# Altium footprint library PCB1.PcbLib: 10 footprints
Each footprint in its own frame and in the unit in brackets; x right, y up, seen from the top. Pads: shape width x height; smd on the part's side, far side on the other; paste and mask are expansions set on the pad; w line width, h text height; cw(c..) or ccw(c..) is an arc to the next point about the centre after c.
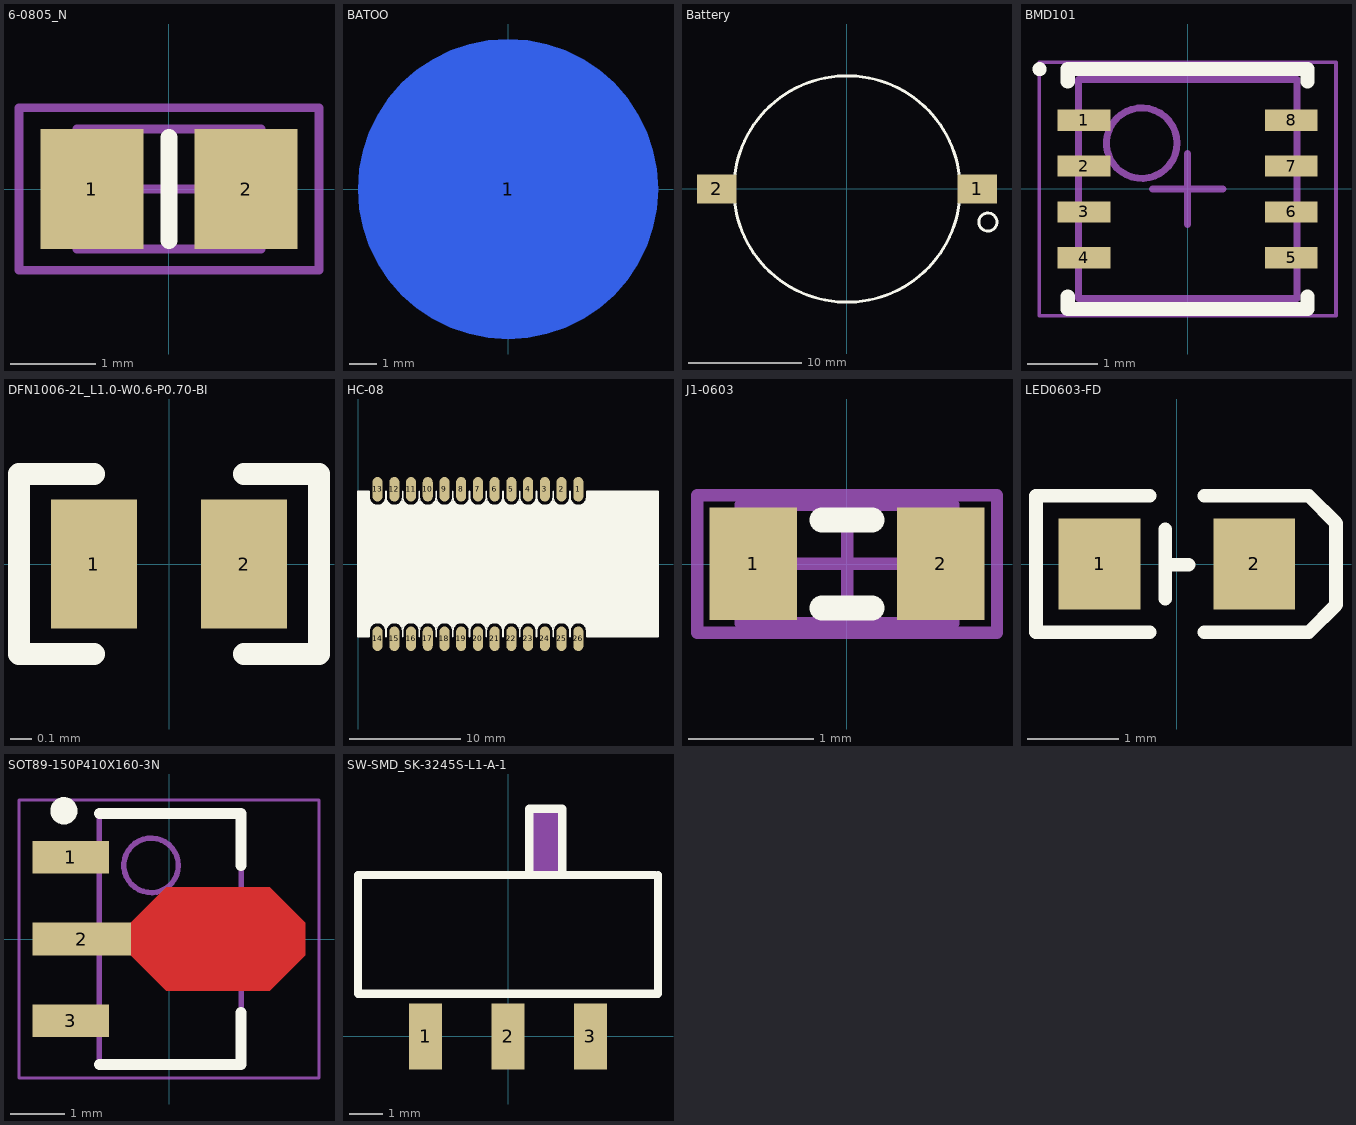
[diagram p0: the footprints below, top view; thin cyan lines are the x and y axes]

## 6-0805_N [mm] "Chip Resistor, Body 2.0x1.2mm, IPC Medium Density"
height 0.7
pads (2):
  rect 1.2x1.4 smd: 1(-0.9,0) 2(0.9,0)
Top Overlay:
  lines w0.2: 0,-0.6 0,0.6
Mechanical 13:
  lines w0.1: -1.075,-0.7 1.075,-0.7 1.075,0.7 -1.075,0.7 -1.075,-0.7
Mechanical 15:
  lines w0.1: -0.5,0 0.5,0 ; 0,-0.5 0,0.5 ; -1.75,-0.95 1.75,-0.95 1.75,0.95 -1.75,0.95 -1.75,-0.95
3D body: height 0.7, standoff 0, extent -1.075,-0.7 1.075,0.7

## BATOO [mm] "焊接心率纽扣"
pads (1):
  round 11 smd far side: 1(0,0)

## Battery [mm] "纽扣电池"
pads (2):
  rect 3.5x2.6 smd: 1(11.5,0) 2(-11.5,0)
Top Overlay:
  circle w0.254: c0,0 r10
  circle w0.254: c12.446,-2.921 r0.8

## BMD101 [mm] "SON, 8-Leads, Body 3.00x3.00mm, Pitch 0.65mm, IPC Medium Density"
height 0.6
pads (8):
  rect 0.75x0.3 smd: 1(-1.47,0.975) 2(-1.47,0.325) 3(-1.47,-0.325) 4(-1.47,-0.975) 5(1.47,-0.975) 6(1.47,-0.325) 7(1.47,0.325) 8(1.47,0.975)
Top Overlay:
  circle w0.1: c-2.1,1.7 r0.05
  lines w0.2: -1.7,-1.525 -1.7,-1.7 1.7,-1.7 1.7,-1.525 ; -1.7,1.525 -1.7,1.7 1.7,1.7 1.7,1.525
Mechanical 13:
  circle w0.1: c-0.65,0.65 r0.5
  lines w0.1: -1.55,-1.55 1.55,-1.55 1.55,1.55 -1.55,1.55 -1.55,-1.55
Mechanical 15:
  lines w0.05: -2.105,-1.8 2.105,-1.8 2.105,1.8 -2.105,1.8 -2.105,-1.8
  lines w0.1: -0.5,0 0.5,0 ; 0,-0.5 0,0.5
3D body: height 0.6, standoff 0.01, extent -1.55,-1.55 1.55,1.55

## DFN1006-2L_L1.0-W0.6-P0.70-BI [mm] "防静电"
pads (2):
  rect 0.4x0.6 smd: 1(-0.35,0) 2(0.35,0)
Top Overlay:
  lines w0.102: -0.35,-0.42 -0.7,-0.42 -0.7,0.42 -0.35,0.42 ; 0.35,-0.42 0.7,-0.42 0.7,0.42 0.35,0.42

## HC-08 [mm] "BLE蓝牙模块"
pads (26):
  oval 0.9x2.2 smd: 1(19.75,6.7) 2(18.25,6.7) 3(16.75,6.7) 4(15.25,6.7) 5(13.75,6.7) 6(12.25,6.7) 7(10.75,6.7) 8(9.25,6.7) 9(7.75,6.7) 10(6.25,6.7) 11(4.75,6.7) 12(3.25,6.7) 13(1.75,6.7) 14(1.75,-6.7) 15(3.25,-6.7) 16(4.75,-6.7) 17(6.25,-6.7) 18(7.75,-6.7) 19(9.25,-6.7) 20(10.75,-6.7) 21(12.25,-6.7) 22(13.75,-6.7) 23(15.25,-6.7) 24(16.75,-6.7) 25(18.25,-6.7) 26(19.75,-6.7)
Top Overlay:
  rectangle: 1,-5.675 1.15,-5.475
  rectangle: 1,-5.475 1.325,-5.3
  rectangle: 1,5.475 1.15,5.675
  rectangle: 1,5.3 1.325,5.475
  rectangle: 1,-5.3 20.5,5.3
  rectangle: 20.5,-6.5 26.9,6.5
  rectangle: -0.006,-6.5 0.994,6.5
  rectangle: 20.349,-5.66 20.669,-5.4
  rectangle: 20.15,-5.425 20.85,-5.275
  rectangle: 18.849,-5.66 19.169,-5.4
  rectangle: 18.65,-5.425 19.35,-5.275
  rectangle: 17.34,-5.654 17.66,-5.394
  rectangle: 17.15,-5.425 17.85,-5.275
  rectangle: 15.849,-5.66 16.169,-5.4
  rectangle: 15.65,-5.425 16.35,-5.275
  rectangle: 14.34,-5.654 14.66,-5.394
  rectangle: 14.15,-5.425 14.85,-5.275
  rectangle: 12.849,-5.66 13.169,-5.4
  rectangle: 12.65,-5.425 13.35,-5.275
  rectangle: 11.34,-5.654 11.66,-5.394
  rectangle: 11.15,-5.425 11.85,-5.275
  rectangle: 9.84,-5.654 10.16,-5.394
  rectangle: 9.65,-5.425 10.35,-5.275
  rectangle: 8.349,-5.66 8.669,-5.4
  rectangle: 8.15,-5.425 8.85,-5.275
  rectangle: 6.84,-5.654 7.16,-5.394
  rectangle: 6.65,-5.425 7.35,-5.275
  rectangle: 5.349,-5.66 5.669,-5.4
  rectangle: 5.15,-5.425 5.85,-5.275
  rectangle: 3.84,-5.654 4.16,-5.394
  rectangle: 3.65,-5.425 4.35,-5.275
  rectangle: 2.34,-5.654 2.66,-5.394
  rectangle: 2.15,-5.425 2.85,-5.275
  rectangle: 20.334,5.4 20.654,5.66
  rectangle: 20.15,5.275 20.85,5.425
  rectangle: 18.834,5.4 19.154,5.66
  rectangle: 18.65,5.275 19.35,5.425
  rectangle: 17.34,5.406 17.66,5.666
  rectangle: 17.15,5.275 17.85,5.425
  rectangle: 15.834,5.4 16.154,5.66
  rectangle: 15.65,5.275 16.35,5.425
  rectangle: 14.34,5.406 14.66,5.666
  rectangle: 14.15,5.275 14.85,5.425
  rectangle: 12.848,5.4 13.168,5.66
  rectangle: 12.65,5.275 13.35,5.425
  rectangle: 11.34,5.406 11.66,5.666
  rectangle: 11.15,5.275 11.85,5.425
  rectangle: 9.84,5.406 10.16,5.666
  rectangle: 9.65,5.275 10.35,5.425
  rectangle: 8.334,5.4 8.654,5.66
  rectangle: 8.15,5.275 8.85,5.425
  rectangle: 6.84,5.406 7.16,5.666
  rectangle: 6.65,5.275 7.35,5.425
  rectangle: 5.348,5.4 5.668,5.66
  rectangle: 5.15,5.275 5.85,5.425
  rectangle: 3.84,5.406 4.16,5.666
  rectangle: 3.65,5.275 4.35,5.425
  rectangle: 2.34,5.406 2.66,5.666
  rectangle: 2.15,5.275 2.85,5.425
  lines w0.152: 2.5,-6.5 2.5,-6 ; 2.5,6 2.5,6.5 ; 2.5,-6.5 2.5,-5.85 ; 2.5,6.5 2.5,6 ; 20.5,-6 ccw(c19.75,-6) 19,-6 ccw(c18.25,-6) 17.5,-6 ccw(c16.75,-6) 16,-6 ccw(c15.25,-6) 14.5,-6 ccw(c13.75,-6) 13,-6 ccw(c12.25,-6) 11.5,-6 ccw(c10.75,-6) 10,-6 ccw(c9.25,-6) 8.5,-6 ccw(c7.75,-6) 7,-6 ccw(c6.25,-6) 5.5,-6 ccw(c4.75,-6) 4,-6 ccw(c3.25,-6) 2.5,-6 ccw(c1.75,-6) 1,-6 1,-6.5 0,-6.5 0,6.5 1,6.5 1,6 ccw(c1.75,6) 2.5,6 ; 20.5,-5.85 20.5,-6.5 26.9,-6.5 26.9,6.5 20.5,6.5 20.5,6 cw(c19.75,6) 19,6 ; 2.5,6 ccw(c3.25,6) 4,6 ; 4,6 ccw(c4.75,6) 5.5,6 ; 4,6 4,6.5 4,6 ; 5.5,6 ccw(c6.25,6) 7,6 ; 5.5,6 5.5,6.5 5.5,6 ; 7,6 ccw(c7.75,6) 8.5,6 ; 7,6 7,6.5 7,6 ; 8.5,6 ccw(c9.25,6) 10,6 ; 8.5,6 8.5,6.5 8.5,6 ; 10,6 ccw(c10.75,6) 11.5,6 ; 10,6 10,6.5 10,6 ; 11.5,6 ccw(c12.25,6) 13,6 ; 11.5,6 11.5,6.5 11.5,6 ; 13,6 ccw(c13.75,6) 14.5,6 ; 13,6 13,6.5 13,6 ; 14.5,6 ccw(c15.25,6) 16,6 ; 14.5,6 14.5,6.5 14.5,6 ; 16,6 ccw(c16.75,6) 17.5,6 ; 16,6 16,6.5 16,6 ; 17.5,6 ccw(c18.25,6) 19,6 ; 17.5,6 17.5,6.5 17.5,6 ; 19,6 19,6.5 19,6 ; 4,-6.5 4,-5.85 4,-6.5 ; 5.5,-6.5 5.5,-5.85 5.5,-6.5 ; 7,-6.5 7,-5.85 7,-6.5 ; 8.5,-6.5 8.5,-5.85 8.5,-6.5 ; 10,-6.5 10,-5.85 10,-6.5 ; 11.5,-6.5 11.5,-5.85 11.5,-6.5 ; 13,-6.5 13,-5.85 13,-6.5 ; 14.5,-6.5 14.5,-5.85 14.5,-6.5 ; 16,-6.5 16,-5.85 16,-6.5 ; 17.5,-6.5 17.5,-5.85 17.5,-6.5 ; 19,-6.5 19,-5.85 19,-6.5

## J1-0603 [mm] "Chip Resistor, Body 1.6x0.8mm, IPC High Density"
height 0.9
pads (2):
  rect 0.7x0.9 smd: 1(-0.75,0) 2(0.75,0)
Top Overlay:
  lines w0.2: -0.2,-0.35 0.2,-0.35 ; -0.2,0.35 0.2,0.35
Mechanical 13:
  lines w0.1: -0.85,-0.475 0.85,-0.475 0.85,0.475 -0.85,0.475 -0.85,-0.475
Mechanical 15:
  lines w0.1: -0.475,0 0.475,0 ; 0,-0.475 0,0.475 ; -1.2,-0.55 1.2,-0.55 1.2,0.55 -1.2,0.55 -1.2,-0.55
3D body: height 0.9, standoff 0, extent -0.85,-0.475 0.85,0.475

## LED0603-FD [mm]
pads (2):
  rect 0.9x1 smd: 1(-0.85,0) 2(0.85,0)
Top Overlay:
  lines w0.15: -1.55,-0.75 -0.3,-0.75 ; -1.55,-0.75 -1.55,0.73 ; -1.55,0.75 -0.3,0.75 ; -0.127,-0.381 -0.127,0.381 ; -0.127,-0.006 0.127,-0.006 ; 0.3,-0.75 1.45,-0.75 1.75,-0.45 1.75,-0.35 1.75,0.35 1.75,0.45 1.45,0.75 0.3,0.75
Mechanical 15:
  region: -1.1,0.1 -0.5,0.1 -0.5,-0.05 -1.1,-0.05
  region: 0.6,0.1 1.2,0.1 1.2,-0.05 0.6,-0.05
  region: -0.865,-0.273 -0.865,0.327 -0.715,0.327 -0.715,-0.273

## SOT89-150P410X160-3N [mm] "SOT89, 3-Leads, Body 4.50x2.45mm, Pitch 1.50mm, Lead Span 4.1mm, IPC Medium Density"
height 1.6
pads (3):
  rect 1.4x0.6 smd: 1(-1.8,1.5) 3(-1.8,-1.5)
  rect 1.8x0.6 smd: 2(-1.6,0)
Top Layer:
  region: -0.7,0.3 -0.05,0.95 1.85,0.95 2.5,0.3 2.5,-0.3 1.85,-0.95 -0.05,-0.95 -0.7,-0.3
Top Overlay:
  circle w0.25: c-1.927,2.35 r0.125
  lines w0.2: -1.278,-2.3 1.322,-2.3 1.322,-1.35 ; -1.278,2.3 1.322,2.3 1.322,1.35
Mechanical 13:
  circle w0.1: c-0.327,1.35 r0.5
  lines w0.1: -1.278,-2.3 -1.278,2.3 1.322,2.3 1.322,-2.3 -1.278,-2.3
Mechanical 15:
  lines w0.05: -2.75,-2.55 -2.75,2.55 2.75,2.55 2.75,-2.55 -2.75,-2.55
  lines w0.1: -0.477,0 0.523,0 ; 0.022,-0.5 0.022,0.5
3D body: height 1.6, standoff 0, extent -1.278,-2.3 1.322,2.3

## SW-SMD_SK-3245S-L1-A-1 [mm] "卧式三脚开关"
pads (3):
  rect 1x2 smd: 1(-2.5,0) 2(0,0) 3(2.5,0)
Top Overlay:
  lines w0.254: 0.644,4.895 0.644,6.905 1.651,6.905 1.651,4.895 ; 4.445,4.895 -4.55,4.895 -4.55,1.295 4.55,1.295 4.55,4.895
Mechanical 15:
  region: 0.635,4.953 0.635,6.858 1.651,6.858 1.651,4.953